# Altium footprint library PCB_ActiveLED.PcbLib: 20 footprints (part 1 of 2)
Each footprint in its own frame and in the unit in brackets; x right, y up, seen from the top. Pads: shape width x height; smd on the part's side, far side on the other; paste and mask are expansions set on the pad; w line width, h text height; cw(c..) or ccw(c..) is an arc to the next point about the centre after c.
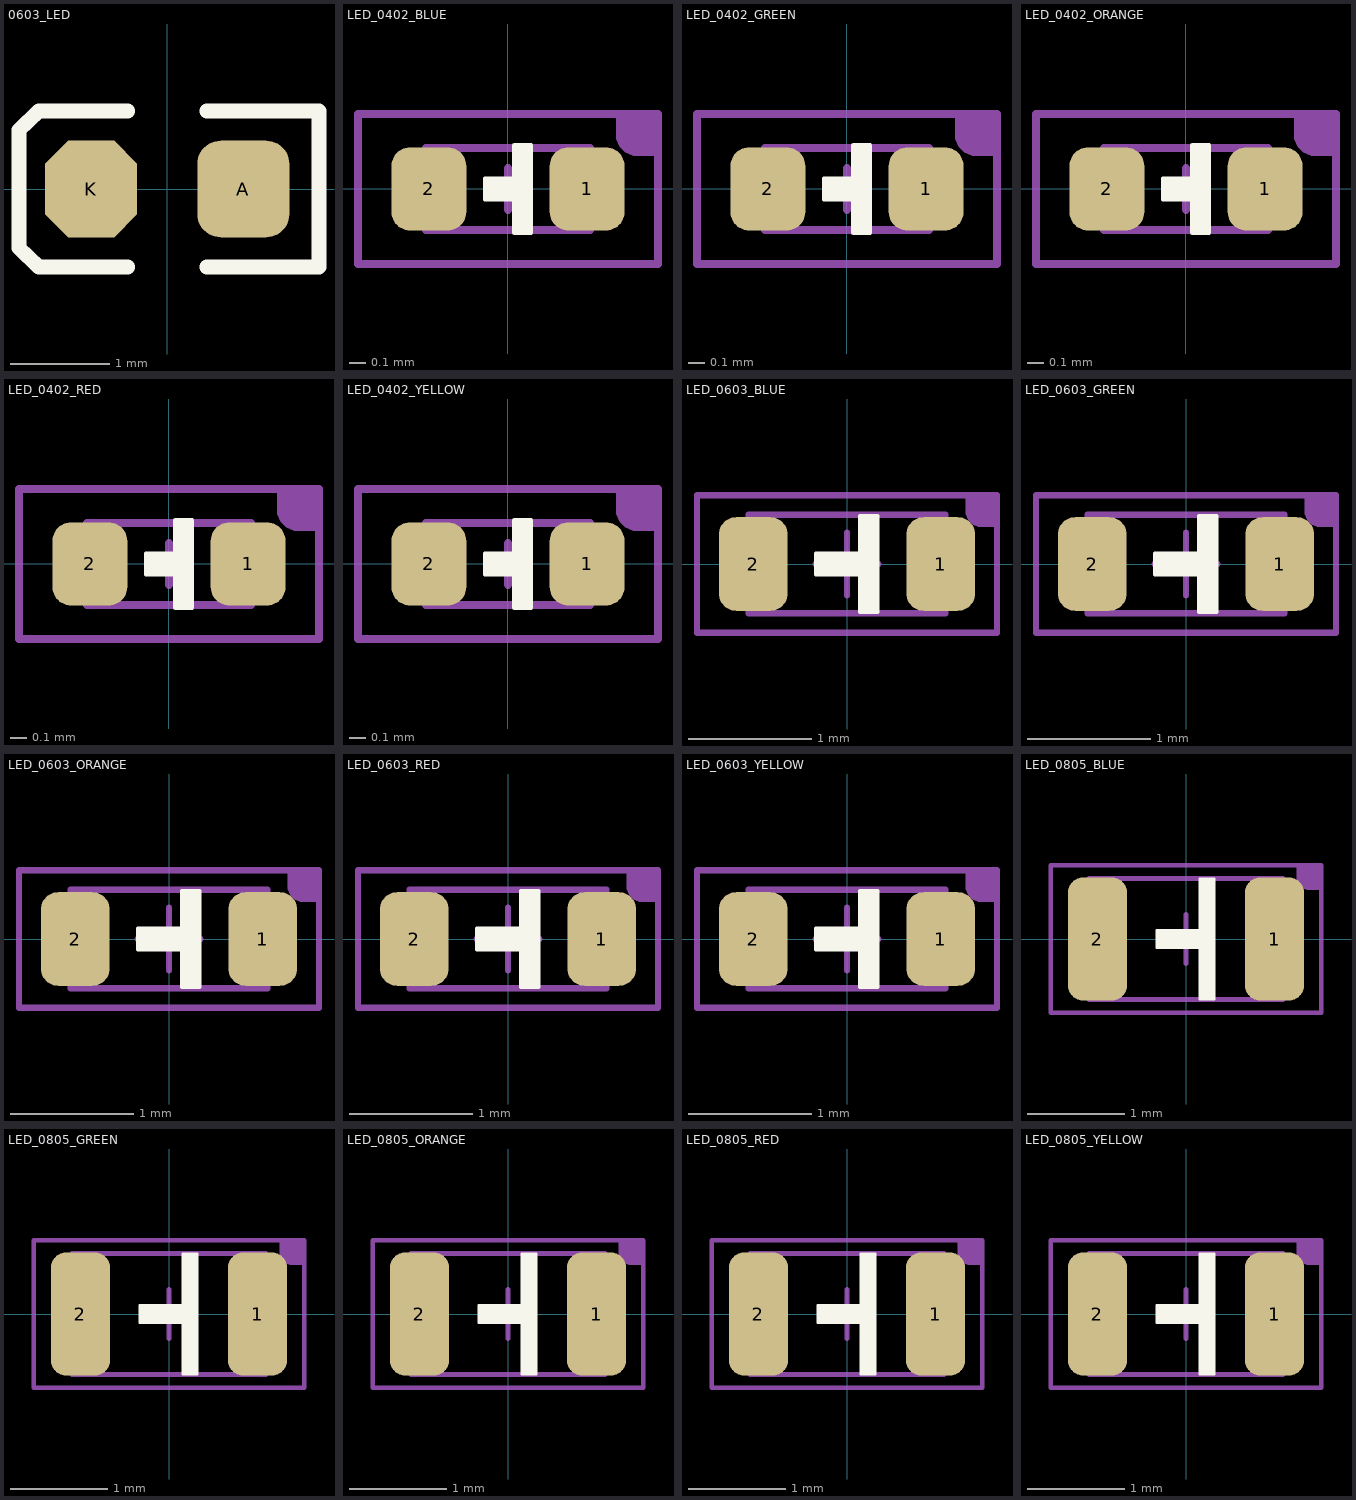
[diagram p0: the footprints below, top view; thin cyan lines are the x and y axes]

## 0603_LED [mm]
pads (2):
  rrect50% 0.93x0.98 smd: A(0.77,0)
  oct 0.93x0.98 smd: K(-0.77,0)
Top Overlay:
  lines w0.15: -0.4,-0.79 -1.3,-0.79 -1.5,-0.597 -1.5,0.597 -1.3,0.79 -0.4,0.79 ; 0.4,-0.79 1.535,-0.79 1.535,0.79 0.4,0.79
3D body "User Library-LED_0603_R.STEP": height 0.6, standoff 0, extent -0.8,-0.4 0.8,0.4

## LED_0402_BLUE [mil]
height 31.5
pads (2):
  rrect50% 18x20 smd: 1(19,0.01) 2(-19,0.01)
Top Overlay:
  region: 5.5,10.5 1.5,10.5 1.5,2.5 -5.5,2.5 -5.5,-2.5 1.5,-2.5 1.5,-10.5 5.5,-10.5
  lines w1: -5.5,-2.5 -5.5,2.5 1.5,2.5 1.5,10.5 5.5,10.5 5.5,-10.5 1.5,-10.5 1.5,-2.5 -5.5,-2.5
Mechanical 4:
  text "+" at 10,-8.01 h20
Mechanical 13:
  lines w2: -5,0 5,0 ; 0,-5 0,5 ; -19.69,-9.85 -19.69,9.84 19.68,9.84 19.68,-9.85 -19.69,-9.85
T-Component:
  region: 36,17.99 36,7.99 31,7.99 30.01,7.99 28.17,8.75 26.76,10.16 26,12 26,12.99 26,17.99
  lines w2: -36,-18.01 -36,17.99 36,17.99 36,-18.01 -36,-18.01
  text ".Designator" at -99.49,-8.62 h40
3D body "User Library-led_0402LED0402 red_.STEP": height 17.72, standoff 0, extent -19.88,-9.84 19.89,9.85

## LED_0402_GREEN [mil]
height 31.5
pads (2):
  rrect50% 18x20 smd: 1(19,0.01) 2(-19,0.01)
Top Overlay:
  region: 5.5,10.5 1.5,10.5 1.5,2.5 -5.5,2.5 -5.5,-2.5 1.5,-2.5 1.5,-10.5 5.5,-10.5
  lines w1: -5.5,-2.5 -5.5,2.5 1.5,2.5 1.5,10.5 5.5,10.5 5.5,-10.5 1.5,-10.5 1.5,-2.5 -5.5,-2.5
Mechanical 4:
  text "+" at 10,-8.01 h20
Mechanical 13:
  lines w2: -5,0 5,0 ; 0,-5 0,5 ; -19.69,-9.85 19.68,-9.85 19.68,9.84 -19.69,9.84 -19.69,-9.85
T-Component:
  region: 36,17.99 36,7.99 31,7.99 30.01,7.99 28.17,8.75 26.76,10.16 26,12 26,12.99 26,17.99
  lines w2: -36,-18.01 36,-18.01 36,17.99 -36,17.99 -36,-18.01
  text ".Designator" at -99.49,-8.62 h40
3D body "User Library-led_0402LED0402 red_.STEP": height 17.72, standoff 0, extent -19.88,-9.84 19.89,9.85

## LED_0402_ORANGE [mil]
height 31.5
pads (2):
  rrect50% 18x20 smd: 1(19,0.01) 2(-19,0.01)
Top Overlay:
  region: 5.5,10.5 1.5,10.5 1.5,2.5 -5.5,2.5 -5.5,-2.5 1.5,-2.5 1.5,-10.5 5.5,-10.5
  lines w1: -5.5,-2.5 -5.5,2.5 1.5,2.5 1.5,10.5 5.5,10.5 5.5,-10.5 1.5,-10.5 1.5,-2.5 -5.5,-2.5
Mechanical 4:
  text "+" at 10,-8.01 h20
Mechanical 13:
  lines w2: -5,0 5,0 ; 0,-5 0,5 ; -19.69,-9.85 -19.69,9.84 19.68,9.84 19.68,-9.85 -19.69,-9.85
T-Component:
  region: 36,17.99 36,7.99 31,7.99 30.01,7.99 28.17,8.75 26.76,10.16 26,12 26,12.99 26,17.99
  lines w2: -36,-18.01 -36,17.99 36,17.99 36,-18.01 -36,-18.01
  text ".Designator" at -99.49,-8.62 h40
3D body "User Library-led_0402LED0402 red_.STEP": height 17.72, standoff 0, extent -19.88,-9.84 19.89,9.85

## LED_0402_RED [mil]
height 31.5
pads (2):
  rrect50% 18x20 smd: 1(19,0.01) 2(-19,0.01)
Top Overlay:
  region: 5.5,10.5 1.5,10.5 1.5,2.5 -5.5,2.5 -5.5,-2.5 1.5,-2.5 1.5,-10.5 5.5,-10.5
  lines w1: -5.5,-2.5 1.5,-2.5 1.5,-10.5 5.5,-10.5 5.5,10.5 1.5,10.5 1.5,2.5 -5.5,2.5 -5.5,-2.5
Mechanical 4:
  text "+" at 10,-8.01 h20
Mechanical 13:
  lines w2: -5,0 5,0 ; 0,-5 0,5 ; -19.69,-9.85 -19.69,9.84 19.68,9.84 19.68,-9.85 -19.69,-9.85
T-Component:
  region: 36,17.99 36,7.99 31,7.99 30.01,7.99 28.17,8.75 26.76,10.16 26,12 26,12.99 26,17.99
  lines w2: -36,-18.01 -36,17.99 36,17.99 36,-18.01 -36,-18.01
  text ".Designator" at -99.49,-8.62 h40
3D body "User Library-led_0402LED0402 red_.STEP": height 17.72, standoff 0, extent -19.88,-9.84 19.89,9.85

## LED_0402_YELLOW [mil]
height 31.5
pads (2):
  rrect50% 18x20 smd: 1(19,0.01) 2(-19,0.01)
Top Overlay:
  region: 5.5,10.5 1.5,10.5 1.5,2.5 -5.5,2.5 -5.5,-2.5 1.5,-2.5 1.5,-10.5 5.5,-10.5
  lines w1: -5.5,-2.5 -5.5,2.5 1.5,2.5 1.5,10.5 5.5,10.5 5.5,-10.5 1.5,-10.5 1.5,-2.5 -5.5,-2.5
Mechanical 4:
  text "+" at 10,-8.01 h20
Mechanical 13:
  lines w2: -5,0 5,0 ; 0,-5 0,5 ; -19.69,-9.85 19.68,-9.85 19.68,9.84 -19.69,9.84 -19.69,-9.85
T-Component:
  region: 36,17.99 36,7.99 31,7.99 30.01,7.99 28.17,8.75 26.76,10.16 26,12 26,12.99 26,17.99
  lines w2: -36,-18.01 36,-18.01 36,17.99 -36,17.99 -36,-18.01
  text ".Designator" at -99.49,-8.62 h40
3D body "User Library-led_0402LED0402 yellow_.STEP": height 17.72, standoff 0, extent -19.88,-9.84 19.89,9.85

## LED_0603_BLUE [mil]
height 31.5
pads (2):
  rrect50% 22x30 smd: 1(30,0) 2(-30,0)
Top Overlay:
  region: 9.97,15.5 3.97,15.5 3.97,3.5 -10.03,3.5 -10.03,-3.5 3.97,-3.5 3.97,-15.5 9.97,-15.5
  lines w1: -10.03,-3.5 3.97,-3.5 3.97,-15.5 9.97,-15.5 9.97,15.5 3.97,15.5 3.97,3.5 -10.03,3.5 -10.03,-3.5
Mechanical 4:
  text "+" at 20.97,-8.01 h20
Mechanical 13:
  lines w2: -10,0 10,0 ; 0,-10 0,10 ; -31.5,-15.75 -31.5,15.75 31.5,15.75 31.5,-15.75 -31.5,-15.75
T-Component:
  region: 47.97,22 37.97,22 37.97,17 37.97,16.01 38.73,14.17 40.14,12.76 41.98,12 42.97,12 47.97,12
  lines w2: -48,-22 48,-22 48,22 -48,22 -48,-22
  text ".Designator" at -149.23,-12.94 h60
3D body "User Library-led_0603LED0603 blue.STEP": height 23.62, standoff 0, extent -31.89,-15.74 31.89,15.75

## LED_0603_GREEN [mil]
height 31.5
pads (2):
  rrect50% 22x30 smd: 1(30,0) 2(-30,0)
Top Overlay:
  region: 9.97,15.5 3.97,15.5 3.97,3.5 -10.03,3.5 -10.03,-3.5 3.97,-3.5 3.97,-15.5 9.97,-15.5
  lines w1: -10.03,-3.5 -10.03,3.5 3.97,3.5 3.97,15.5 9.97,15.5 9.97,-15.5 3.97,-15.5 3.97,-3.5 -10.03,-3.5
Mechanical 4:
  text "+" at 20.97,-8.01 h20
Mechanical 13:
  lines w2: -10,0 10,0 ; 0,-10 0,10 ; -31.5,-15.75 -31.5,15.75 31.5,15.75 31.5,-15.75 -31.5,-15.75
T-Component:
  region: 47.97,22 37.97,22 37.97,17 37.97,16.01 38.73,14.17 40.14,12.76 41.98,12 42.97,12 47.97,12
  lines w2: -48,-22 48,-22 48,22 -48,22 -48,-22
  text ".Designator" at -149.23,-12.94 h60
3D body "User Library-led_0603LED0603 green.STEP": height 23.62, standoff 0, extent -31.89,-15.74 31.89,15.75

## LED_0603_ORANGE [mil]
height 31.5
pads (2):
  rrect50% 22x30 smd: 1(30,0) 2(-30,0)
Top Overlay:
  region: 9.97,15.5 3.97,15.5 3.97,3.5 -10.03,3.5 -10.03,-3.5 3.97,-3.5 3.97,-15.5 9.97,-15.5
  lines w1: -10.03,-3.5 -10.03,3.5 3.97,3.5 3.97,15.5 9.97,15.5 9.97,-15.5 3.97,-15.5 3.97,-3.5 -10.03,-3.5
Mechanical 4:
  text "+" at 20.97,-8.01 h20
Mechanical 13:
  lines w2: -10,0 10,0 ; 0,-10 0,10 ; -31.5,-15.75 31.5,-15.75 31.5,15.75 -31.5,15.75 -31.5,-15.75
T-Component:
  region: 47.97,22 37.97,22 37.97,17 37.97,16.01 38.73,14.17 40.14,12.76 41.98,12 42.97,12 47.97,12
  lines w2: -48,-22 -48,22 48,22 48,-22 -48,-22
  text ".Designator" at -149.23,-12.94 h60
3D body "User Library-led_0603LED0603 orange_.STEP": height 23.62, standoff 0, extent -31.89,-15.74 31.89,15.75

## LED_0603_RED [mil]
height 31.5
pads (2):
  rrect50% 22x30 smd: 1(30,0) 2(-30,0)
Top Overlay:
  region: 9.97,15.5 3.97,15.5 3.97,3.5 -10.03,3.5 -10.03,-3.5 3.97,-3.5 3.97,-15.5 9.97,-15.5
  lines w1: -10.03,-3.5 3.97,-3.5 3.97,-15.5 9.97,-15.5 9.97,15.5 3.97,15.5 3.97,3.5 -10.03,3.5 -10.03,-3.5
Mechanical 4:
  text "+" at 20.97,-8.01 h20
Mechanical 13:
  lines w2: -10,0 10,0 ; 0,-10 0,10 ; -31.5,-15.75 31.5,-15.75 31.5,15.75 -31.5,15.75 -31.5,-15.75
T-Component:
  region: 47.97,22 37.97,22 37.97,17 37.97,16.01 38.73,14.17 40.14,12.76 41.98,12 42.97,12 47.97,12
  lines w2: -48,-22 -48,22 48,22 48,-22 -48,-22
  text ".Designator" at -149.23,-12.94 h60
3D body "User Library-led_0603LED0603 red.STEP": height 23.62, standoff 0, extent -31.89,-15.74 31.89,15.75

## LED_0603_YELLOW [mil]
height 31.5
pads (2):
  rrect50% 22x30 smd: 1(30,0) 2(-30,0)
Top Overlay:
  region: 9.97,15.5 3.97,15.5 3.97,3.5 -10.03,3.5 -10.03,-3.5 3.97,-3.5 3.97,-15.5 9.97,-15.5
  lines w1: -10.03,-3.5 -10.03,3.5 3.97,3.5 3.97,15.5 9.97,15.5 9.97,-15.5 3.97,-15.5 3.97,-3.5 -10.03,-3.5
Mechanical 4:
  text "+" at 20.97,-8.01 h20
Mechanical 13:
  lines w2: -10,0 10,0 ; 0,-10 0,10 ; -31.5,-15.75 31.5,-15.75 31.5,15.75 -31.5,15.75 -31.5,-15.75
T-Component:
  region: 47.97,22 37.97,22 37.97,17 37.97,16.01 38.73,14.17 40.14,12.76 41.98,12 42.97,12 47.97,12
  lines w2: -48,-22 48,-22 48,22 -48,22 -48,-22
  text ".Designator" at -149.23,-12.94 h60
3D body "User Library-led_0603LED0603 yellow_.STEP": height 23.62, standoff 0, extent -31.89,-15.74 31.89,15.75

## LED_0805_BLUE [mil]
height 47.24
pads (2):
  rrect50% 24x50 smd: 1(36,0) 2(-36,0)
Top Overlay:
  region: 11.5,24.5 5.5,24.5 5.5,3.5 -12,3.5 -12,-3.5 5.5,-3.5 5.5,-24.5 11.5,-24.5
  lines w1: -12,-3.5 -12,3.5 5.5,3.5 5.5,24.5 11.5,24.5 11.5,-24.5 5.5,-24.5 5.5,-3.5 -12,-3.5
Mechanical 4:
  text "+" at 27,1.99 h20
Mechanical 13:
  lines w2: -10,0 10,0 ; 0,-10 0,10 ; -39.37,-24.61 39.37,-24.61 39.37,24.61 -39.37,24.61 -39.37,-24.61
T-Component:
  region: 55,30 45,30 45,25 45,24.01 45.76,22.17 47.17,20.76 49.01,20 50,20 55,20
  lines w2: -55,-30 -55,30 55,30 55,-30 -55,-30
  text ".Designator" at -198.97,-17.25 h80
3D body "User Library-led_0805LED0805_blue.STEP": height 43.31, standoff 0, extent -39.76,-24.6 39.77,24.61

## LED_0805_GREEN [mil]
height 47.24
pads (2):
  rrect50% 24x50 smd: 1(36,0) 2(-36,0)
Top Overlay:
  region: 11.5,24.5 5.5,24.5 5.5,3.5 -12,3.5 -12,-3.5 5.5,-3.5 5.5,-24.5 11.5,-24.5
  lines w1: -12,-3.5 5.5,-3.5 5.5,-24.5 11.5,-24.5 11.5,24.5 5.5,24.5 5.5,3.5 -12,3.5 -12,-3.5
Mechanical 4:
  text "+" at 27,1.99 h20
Mechanical 13:
  lines w2: -10,0 10,0 ; 0,-10 0,10 ; -39.37,-24.61 39.37,-24.61 39.37,24.61 -39.37,24.61 -39.37,-24.61
T-Component:
  region: 55,30 45,30 45,25 45,24.01 45.76,22.17 47.17,20.76 49.01,20 50,20 55,20
  lines w2: -55,-30 -55,30 55,30 55,-30 -55,-30
  text ".Designator" at -198.97,-17.25 h80
3D body "User Library-led_0805LED0805_green.STEP": height 43.31, standoff 0, extent -39.76,-24.6 39.77,24.61

## LED_0805_ORANGE [mil]
height 47.24
pads (2):
  rrect50% 24x50 smd: 1(36,0) 2(-36,0)
Top Overlay:
  region: 11.5,24.5 5.5,24.5 5.5,3.5 -12,3.5 -12,-3.5 5.5,-3.5 5.5,-24.5 11.5,-24.5
  lines w1: -12,-3.5 5.5,-3.5 5.5,-24.5 11.5,-24.5 11.5,24.5 5.5,24.5 5.5,3.5 -12,3.5 -12,-3.5
Mechanical 4:
  text "+" at 27,1.99 h20
Mechanical 13:
  lines w2: -10,0 10,0 ; 0,-10 0,10 ; -39.37,-24.61 39.37,-24.61 39.37,24.61 -39.37,24.61 -39.37,-24.61
T-Component:
  region: 55,30 45,30 45,25 45,24.01 45.76,22.17 47.17,20.76 49.01,20 50,20 55,20
  lines w2: -55,-30 -55,30 55,30 55,-30 -55,-30
  text ".Designator" at -198.97,-17.25 h80
3D body "User Library-led_0805LED0805_orange.STEP": height 43.31, standoff 0, extent -39.76,-24.6 39.77,24.61

## LED_0805_RED [mil]
height 47.24
pads (2):
  rrect50% 24x50 smd: 1(36,0) 2(-36,0)
Top Overlay:
  region: 11.5,24.5 5.5,24.5 5.5,3.5 -12,3.5 -12,-3.5 5.5,-3.5 5.5,-24.5 11.5,-24.5
  lines w1: -12,-3.5 -12,3.5 5.5,3.5 5.5,24.5 11.5,24.5 11.5,-24.5 5.5,-24.5 5.5,-3.5 -12,-3.5
Mechanical 4:
  text "+" at 27,1.99 h20
Mechanical 13:
  lines w2: -10,0 10,0 ; 0,-10 0,10 ; -39.37,-24.61 39.37,-24.61 39.37,24.61 -39.37,24.61 -39.37,-24.61
T-Component:
  region: 55,30 45,30 45,25 45,24.01 45.76,22.17 47.17,20.76 49.01,20 50,20 55,20
  lines w2: -55,-30 -55,30 55,30 55,-30 -55,-30
  text ".Designator" at -198.97,-17.25 h80
3D body "User Library-led_0805LED0805_red.STEP": height 43.31, standoff 0, extent -39.76,-24.6 39.77,24.61

## LED_0805_YELLOW [mil]
height 47.24
pads (2):
  rrect50% 24x50 smd: 1(36,0) 2(-36,0)
Top Overlay:
  region: 11.5,24.5 5.5,24.5 5.5,3.5 -12,3.5 -12,-3.5 5.5,-3.5 5.5,-24.5 11.5,-24.5
  lines w1: -12,-3.5 -12,3.5 5.5,3.5 5.5,24.5 11.5,24.5 11.5,-24.5 5.5,-24.5 5.5,-3.5 -12,-3.5
Mechanical 4:
  text "+" at 27,1.99 h20
Mechanical 13:
  lines w2: -10,0 10,0 ; 0,-10 0,10 ; -39.37,-24.61 39.37,-24.61 39.37,24.61 -39.37,24.61 -39.37,-24.61
T-Component:
  region: 55,30 45,30 45,25 45,24.01 45.76,22.17 47.17,20.76 49.01,20 50,20 55,20
  lines w2: -55,-30 -55,30 55,30 55,-30 -55,-30
  text ".Designator" at -198.97,-17.25 h80
3D body "User Library-led_0805LED0805_yellow.STEP": height 43.31, standoff 0, extent -39.76,-24.6 39.77,24.61